# EAGLE library part MCP23008_DHT (library aggiunte)
MCP23008 I2C EXPANDER 8 Ch
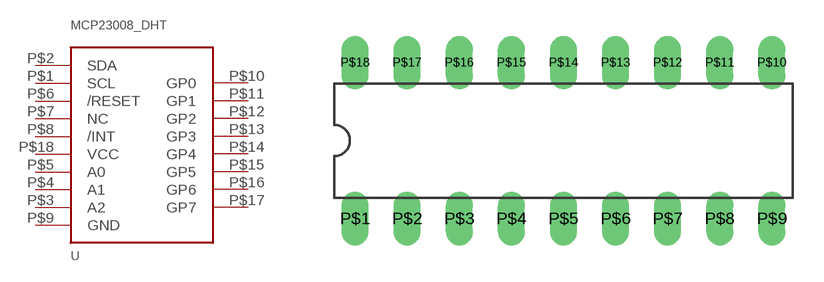
[diagram p4: symbol with the pads of MCP23008_DHT; footprint MCP23008_DHT]

Designator prefix -

## MCP23008_DHT  [MCP23008_DHT]
P$1  SCL  in
P$2  SDA
P$3  A2
P$4  A1
P$5  A0
P$6  /RESET  in
P$7  NC  nc
P$8  /INT  out
P$9  GND  pwr
P$10  GP0
P$11  GP1
P$12  GP2
P$13  GP3
P$14  GP4
P$15  GP5
P$16  GP6
P$17  GP7
P$18  VCC  pwr

## Footprint MCP23008_DHT (pad centres in mm)
drill 0.8 long: P$1 0,0; P$2 2.54,0; P$3 5.08,0; P$4 7.62,0; P$5 10.16,0; P$6 12.7,0; P$7 15.24,0; P$8 17.78,0; P$9 20.32,0; P$10 20.32,7.62; P$11 17.78,7.62; P$12 15.24,7.62; P$13 12.7,7.62; P$14 10.16,7.62; P$15 7.62,7.62; P$16 5.08,7.62; P$17 2.54,7.62; P$18 0,7.62